# EAGLE library part RFVC6406 (library RFVC6406)
Features ■ Octave Bandwidth 2000MHz to 4000MHz ■ -112dBc/Hz Typical at 100kHz Offset ■ POUT 11dBm Typical ■ 5V Supply ■ 45mA Current Consumption Applications ■ Test and Measurement Instrumentation ■ Wideband Radios for Military and Commercial Applications
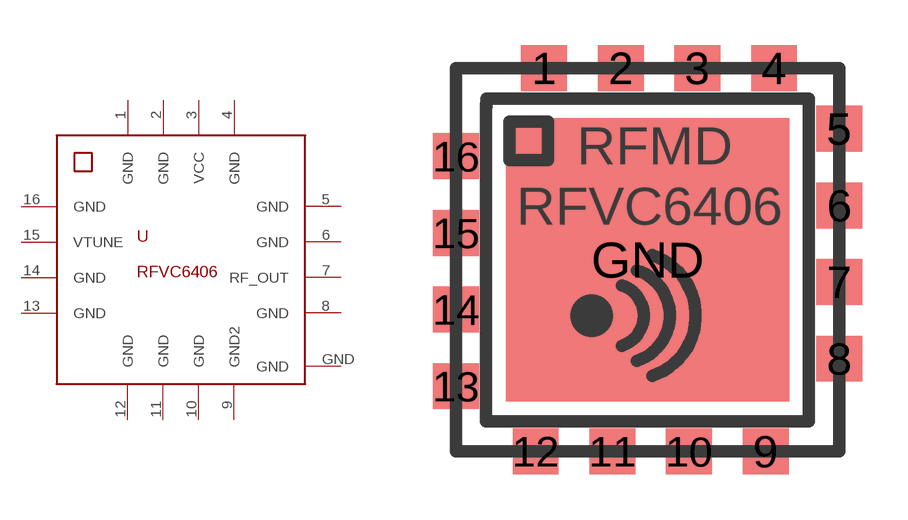
[diagram p0: symbol with the pads of RFVC6406; footprint RFVC6406]

Designator prefix -

## RFVC6406  [RFVC6406]
1  GND
2  GND
3  VCC
4  GND
5  GND
6  GND
7  RF_OUT
8  GND
9  GND2
10  GND
11  GND
12  GND
13  GND
14  GND
15  VTUNE
16  GND
GND  GND

## Footprint RFVC6406 (pad centres in mm)
Features ■ Octave Bandwidth 2000MHz to 4000MHz ■ -112dBc/Hz Typical at 100kHz Offset ■ POUT 11dBm Typical ■ 5V Supply ■ 45mA Current Consumption Applications ■ Test and Measurement Instrumentation ■ Wideband Radios for Military and Commercial Applications
smd 1.52 x 1.52: 1 2.92,12.7; 2 5.46,12.7; 3 8,12.7; 4 10.54,12.7; 5 12.7,10.69; 6 12.7,8.15; 7 12.7,5.61; 8 12.7,3.07; 9 10.26,0; 10 7.72,0; 11 5.18,0; 12 2.64,0; 13 0,2.16; 14 0,4.7; 15 0,7.24; 16 0,9.78
smd 9.4 x 9.4: GND 6.35,6.35